# EAGLE library part MUX.DEMUX-8:16_TS3DV416DGGR (library KVM-Keyboard)
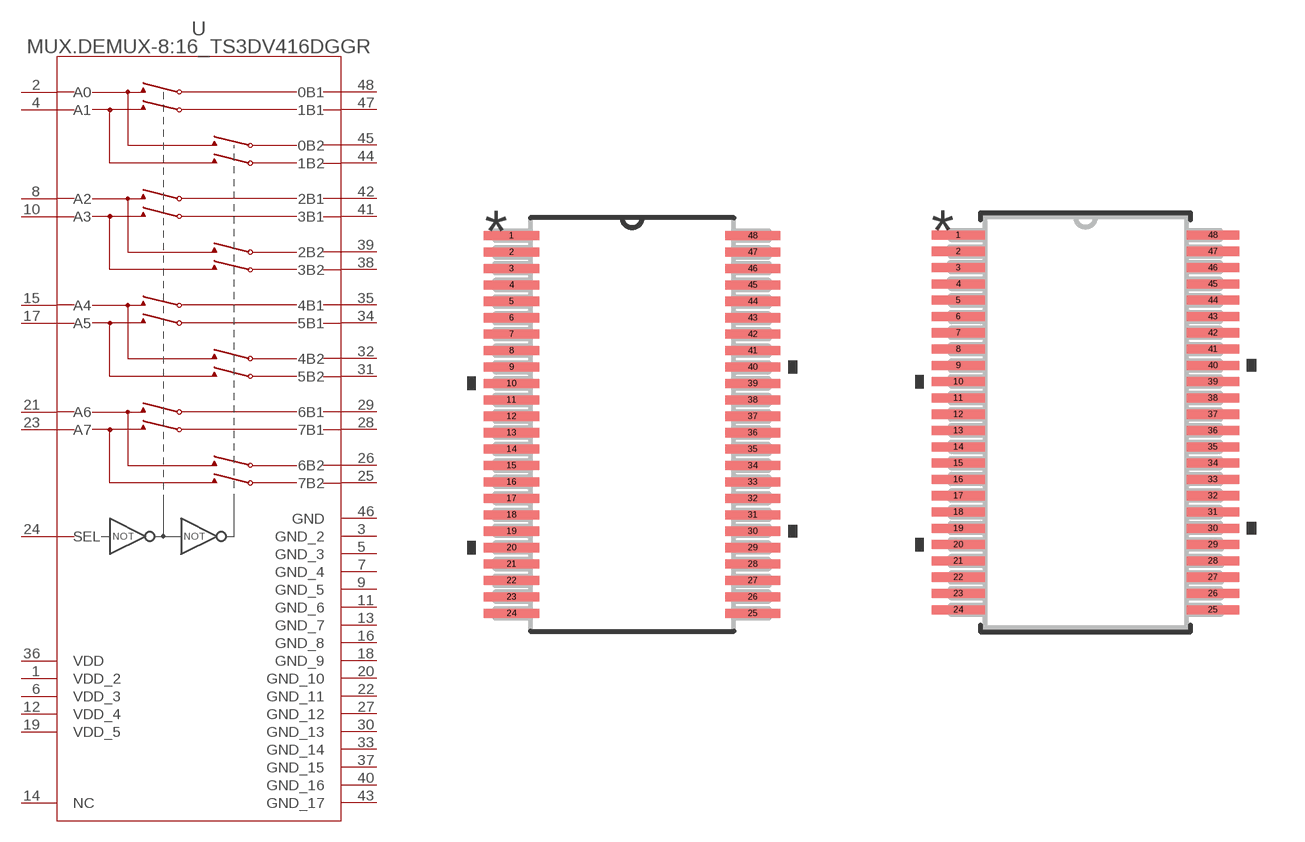
[diagram p10: symbol with the pads of DGG48; footprints DGG48, DGG48-M]

Designator prefix U

## MUX.DEMUX-8:16_TS3DV416DGGR (COPYRIGHT: Copyright (C) 2022 Ultra Librarian. All rights reserved.; DIGI-KEY_PART_NUMBER_1: 296-21175-1-ND; DIGI-KEY_PART_NUMBER_2: 296-21175-2-ND; DIGI-KEY_PART_NUMBER_3: 296-21175-6-ND; DIGI-KEY_PART_NUMBER_4: 2156-TS3DV416DGGR-ND; MANUFACTURER_PART_NUMBER: TS3DV416DGGR; MFR_NAME: Texas Instruments)  [DGG48]
1  VDD_2  pwr
2  A0
3  GND_2  pwr
4  A1
5  GND_3  pwr
6  VDD_3  pwr
7  GND_4  pwr
8  A2
9  GND_5  pwr
10  A3
11  GND_6  pwr
12  VDD_4  pwr
13  GND_7  pwr
14  NC  pas
15  A4
16  GND_8  pwr
17  A5
18  GND_9  pwr
19  VDD_5  pwr
20  GND_10  pwr
21  A6
22  GND_11  pwr
23  A7
24  SEL  in
25  7B2
26  6B2
27  GND_12  pwr
28  7B1
29  6B1
30  GND_13  pwr
31  5B2
32  4B2
33  GND_14  pwr
34  5B1
35  4B1
36  VDD  pwr
37  GND_15  pwr
38  3B2
39  2B2
40  GND_16  pwr
41  3B1
42  2B1
43  GND_17  pwr
44  1B2
45  0B2
46  GND  pwr
47  1B1
48  0B1

## MUX.DEMUX-8:16_TS3DV416DGGRDGG48-M (COPYRIGHT: Copyright (C) 2022 Ultra Librarian. All rights reserved.; DIGI-KEY_PART_NUMBER_1: 296-21175-1-ND; DIGI-KEY_PART_NUMBER_2: 296-21175-2-ND; DIGI-KEY_PART_NUMBER_3: 296-21175-6-ND; DIGI-KEY_PART_NUMBER_4: 2156-TS3DV416DGGR-ND; MANUFACTURER_PART_NUMBER: TS3DV416DGGR; MFR_NAME: Texas Instruments)  [DGG48-M]
Pads as for DGG48

## MUX.DEMUX-8:16_TS3DV416DGGRDGG48-L (COPYRIGHT: Copyright (C) 2022 Ultra Librarian. All rights reserved.; DIGI-KEY_PART_NUMBER_1: 296-21175-1-ND; DIGI-KEY_PART_NUMBER_2: 296-21175-2-ND; DIGI-KEY_PART_NUMBER_3: 296-21175-6-ND; DIGI-KEY_PART_NUMBER_4: 2156-TS3DV416DGGR-ND; MANUFACTURER_PART_NUMBER: TS3DV416DGGR; MFR_NAME: Texas Instruments)  [DGG48-L]
Pads as for DGG48

## Footprint DGG48 (pad centres in mm)
smd 1.676 x 0.279: 1 -3.67,5.75; 2 -3.67,5.25; 3 -3.67,4.75; 4 -3.67,4.25; 5 -3.67,3.75; 6 -3.67,3.25; 7 -3.67,2.75; 8 -3.67,2.25; 9 -3.67,1.75; 10 -3.67,1.25; 11 -3.67,0.75; 12 -3.67,0.25; 13 -3.67,-0.25; 14 -3.67,-0.75; 15 -3.67,-1.25; 16 -3.67,-1.75; 17 -3.67,-2.25; 18 -3.67,-2.75; 19 -3.67,-3.25; 20 -3.67,-3.75; 21 -3.67,-4.25; 22 -3.67,-4.75; 23 -3.67,-5.25; 24 -3.67,-5.75; 25 3.67,-5.75; 26 3.67,-5.25; 27 3.67,-4.75; 28 3.67,-4.25; 29 3.67,-3.75; 30 3.67,-3.25; 31 3.67,-2.75; 32 3.67,-2.25; 33 3.67,-1.75; 34 3.67,-1.25; 35 3.67,-0.75; 36 3.67,-0.25; 37 3.67,0.25; 38 3.67,0.75; 39 3.67,1.25; 40 3.67,1.75; 41 3.67,2.25; 42 3.67,2.75; 43 3.67,3.25; 44 3.67,3.75; 45 3.67,4.25; 46 3.67,4.75; 47 3.67,5.25; 48 3.67,5.75

## Footprint DGG48-M (pad centres in mm)
smd 1.613 x 0.279: 1 -3.905,5.75; 2 -3.905,5.25; 3 -3.905,4.75; 4 -3.905,4.25; 5 -3.905,3.75; 6 -3.905,3.25; 7 -3.905,2.75; 8 -3.905,2.25; 9 -3.905,1.75; 10 -3.905,1.25; 11 -3.905,0.75; 12 -3.905,0.25; 13 -3.905,-0.25; 14 -3.905,-0.75; 15 -3.905,-1.25; 16 -3.905,-1.75; 17 -3.905,-2.25; 18 -3.905,-2.75; 19 -3.905,-3.25; 20 -3.905,-3.75; 21 -3.905,-4.25; 22 -3.905,-4.75; 23 -3.905,-5.25; 24 -3.905,-5.75; 25 3.905,-5.75; 26 3.905,-5.25; 27 3.905,-4.75; 28 3.905,-4.25; 29 3.905,-3.75; 30 3.905,-3.25; 31 3.905,-2.75; 32 3.905,-2.25; 33 3.905,-1.75; 34 3.905,-1.25; 35 3.905,-0.75; 36 3.905,-0.25; 37 3.905,0.25; 38 3.905,0.75; 39 3.905,1.25; 40 3.905,1.75; 41 3.905,2.25; 42 3.905,2.75; 43 3.905,3.25; 44 3.905,3.75; 45 3.905,4.25; 46 3.905,4.75; 47 3.905,5.25; 48 3.905,5.75

## Footprint DGG48-L (pad centres in mm)
smd 1.168 x 0.229: 1 -3.721,5.75; 2 -3.721,5.25; 3 -3.721,4.75; 4 -3.721,4.25; 5 -3.721,3.75; 6 -3.721,3.25; 7 -3.721,2.75; 8 -3.721,2.25; 9 -3.721,1.75; 10 -3.721,1.25; 11 -3.721,0.75; 12 -3.721,0.25; 13 -3.721,-0.25; 14 -3.721,-0.75; 15 -3.721,-1.25; 16 -3.721,-1.75; 17 -3.721,-2.25; 18 -3.721,-2.75; 19 -3.721,-3.25; 20 -3.721,-3.75; 21 -3.721,-4.25; 22 -3.721,-4.75; 23 -3.721,-5.25; 24 -3.721,-5.75; 25 3.721,-5.75; 26 3.721,-5.25; 27 3.721,-4.75; 28 3.721,-4.25; 29 3.721,-3.75; 30 3.721,-3.25; 31 3.721,-2.75; 32 3.721,-2.25; 33 3.721,-1.75; 34 3.721,-1.25; 35 3.721,-0.75; 36 3.721,-0.25; 37 3.721,0.25; 38 3.721,0.75; 39 3.721,1.25; 40 3.721,1.75; 41 3.721,2.25; 42 3.721,2.75; 43 3.721,3.25; 44 3.721,3.75; 45 3.721,4.25; 46 3.721,4.75; 47 3.721,5.25; 48 3.721,5.75